# EAGLE library part CD47 (library mynixies)
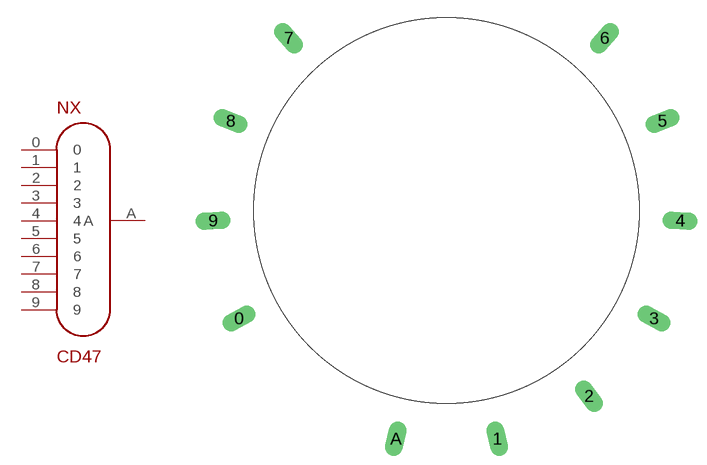
[diagram p19: symbol with the pads of TSB-12P-CONTACT; footprint TSB-12P-CONTACT]

Designator prefix NX

## CD47  [TSB-12P-CONTACT]
0  0  pas
1  1  pas
2  2  pas
3  3  pas
4  4  pas
5  5  pas
6  6  pas
7  7  pas
8  8  pas
9  9  pas
A  A  pas

## Footprint TSB-12P-CONTACT (pad centres in mm)
drill 1 long: 0 -17.74,-9.235; 1 4.329,-19.526; 2 12.175,-15.867; 3 17.74,-9.235; 4 19.981,-0.872; 5 18.478,7.654; 6 13.512,14.746; 7 -13.512,14.746; 8 -18.478,7.654; 9 -19.981,-0.872; A -4.329,-19.526
hole 33 at 0,0